# Altium schematic symbol library CristalCuarzo.SchLib: 2 symbols
Pins are listed as number, name and electrical type; pins without a type are passive.

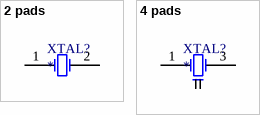
[diagram p0: symbols 2 pads to 4 pads]

## 2 pads
designator XTAL?
footprint 2-SMD 12.7 x 4.5 mm
footprint 2-SMD 3.2 x 1.5 mm
footprint 2-SMD 3.2 x 2.5 mm
pins: 1 OSC1, 2 OSC2

## 4 pads
designator XTAL?
footprint 4-SMD 3.2 x 2.5 x 0.8 mm
pins: 1 OSC1, 2, 3 OSC2, 4